# EAGLE library part FT232HL-REEL (library SamacSys_Parts)
USB 2.0 to UART/FIFO Interface, LQFP48 FTDI Chip FT232HL-REEL Universal Asynchronous Receiver & Transmitter RS232, RS422, RS485 UART 12Mbit/s, 1.8 V, 3.3 V Source: Datasheet <http://www.ftdichip.com/Support/Documents/DataSheets/ICs/DS_FT232H.pdf>
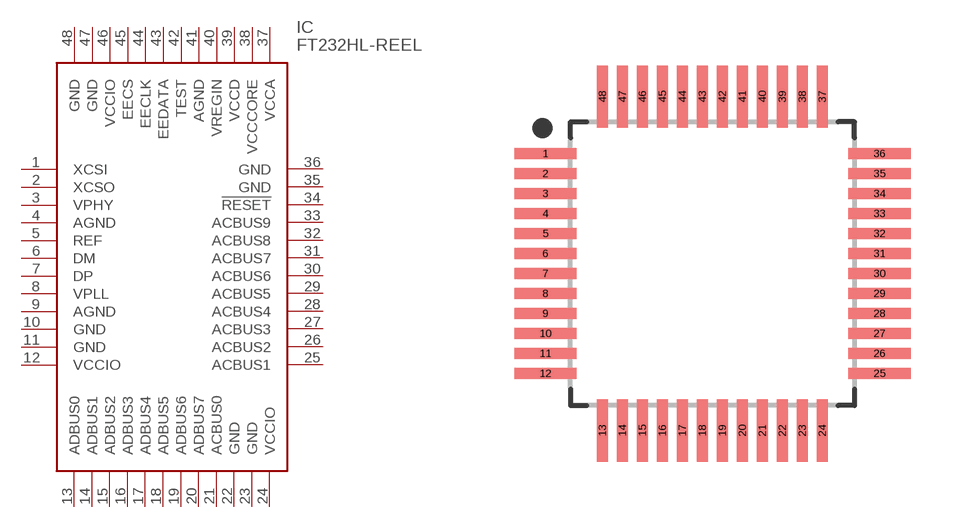
[diagram p3: symbol with the pads of QFP50P900X900X160-48N; footprint QFP50P900X900X160-48N]

Designator prefix IC

## FT232HL-REEL (DESCRIPTION: USB 2.0 to UART/FIFO Interface, LQFP48 FTDI Chip FT232HL-REEL Universal Asynchronous Receiver & Transmitter RS232, RS422, RS485 UART 12Mbit/s, 1.8 V, 3.3 V; HEIGHT: 1.6mm; MANUFACTURER_NAME: FTDI Chip; MANUFACTURER_PART_NUMBER: FT232HL-REEL; MOUSER_PART_NUMBER: 895-FT232HL-REEL; MOUSER_PRICE-STOCK: https://www.mouser.co.uk/ProductDetail/FTDI/FT232HL-REEL?qs=rzPzygjq8vIanTFlYsBQCw%3D%3D)  [QFP50P900X900X160-48N]
1  XCSI  in
2  XCSO  in
3  VPHY
4  AGND  pwr
5  REF  in
6  DM
7  DP
8  VPLL
9  AGND  pwr
10  GND  pwr
11  GND  pwr
12  VCCIO  pwr
13  ADBUS0
14  ADBUS1
15  ADBUS2
16  ADBUS3
17  ADBUS4
18  ADBUS5
19  ADBUS6
20  ADBUS7
21  ACBUS0
22  GND  pwr
23  GND  pwr
24  VCCIO  pwr
25  ACBUS1
26  ACBUS2
27  ACBUS3
28  ACBUS4
29  ACBUS5
30  ACBUS6
31  ACBUS7
32  ACBUS8
33  ACBUS9
34  !RESET
35  GND  pwr
36  GND  pwr
37  VCCA  pwr
38  VCCCORE  pwr
39  VCCD  pwr
40  VREGIN  in
41  AGND  pwr
42  TEST
43  EEDATA
44  EECLK  in
45  EECS  in
46  VCCIO  pwr
47  GND  pwr
48  GND  pwr

## Footprint QFP50P900X900X160-48N (pad centres in mm)
48-QFP, 0.50 mm pitch, 9.00 mm span, 7.00 X 7.00 X 1.60 mm body 48-pin QFP package with 0.50 mm pitch, 9.00 mm lead span1 X 9.00 mm lead span2 with body size 7.00 X 7.00 X 1.60 mm
smd 1.559 x 0.28: 1 -4.178,2.75; 2 -4.178,2.25; 3 -4.178,1.75; 4 -4.178,1.25; 5 -4.178,0.75; 6 -4.178,0.25; 7 -4.178,-0.25; 8 -4.178,-0.75; 9 -4.178,-1.25; 10 -4.178,-1.75; 11 -4.178,-2.25; 12 -4.178,-2.75; 25 4.178,-2.75; 26 4.178,-2.25; 27 4.178,-1.75; 28 4.178,-1.25; 29 4.178,-0.75; 30 4.178,-0.25; 31 4.178,0.25; 32 4.178,0.75; 33 4.178,1.25; 34 4.178,1.75; 35 4.178,2.25; 36 4.178,2.75
smd 0.28 x 1.559: 13 -2.75,-4.178; 14 -2.25,-4.178; 15 -1.75,-4.178; 16 -1.25,-4.178; 17 -0.75,-4.178; 18 -0.25,-4.178; 19 0.25,-4.178; 20 0.75,-4.178; 21 1.25,-4.178; 22 1.75,-4.178; 23 2.25,-4.178; 24 2.75,-4.178; 37 2.75,4.178; 38 2.25,4.178; 39 1.75,4.178; 40 1.25,4.178; 41 0.75,4.178; 42 0.25,4.178; 43 -0.25,4.178; 44 -0.75,4.178; 45 -1.25,4.178; 46 -1.75,4.178; 47 -2.25,4.178; 48 -2.75,4.178